# Altium footprint library Dual-In-Line Package.PcbLib: 149 footprints (part 6 of 10)
Each footprint in its own frame and in the unit in brackets; x right, y up, seen from the top. Pads: shape width x height; smd on the part's side, far side on the other; paste and mask are expansions set on the pad; w line width, h text height; cw(c..) or ccw(c..) is an arc to the next point about the centre after c.
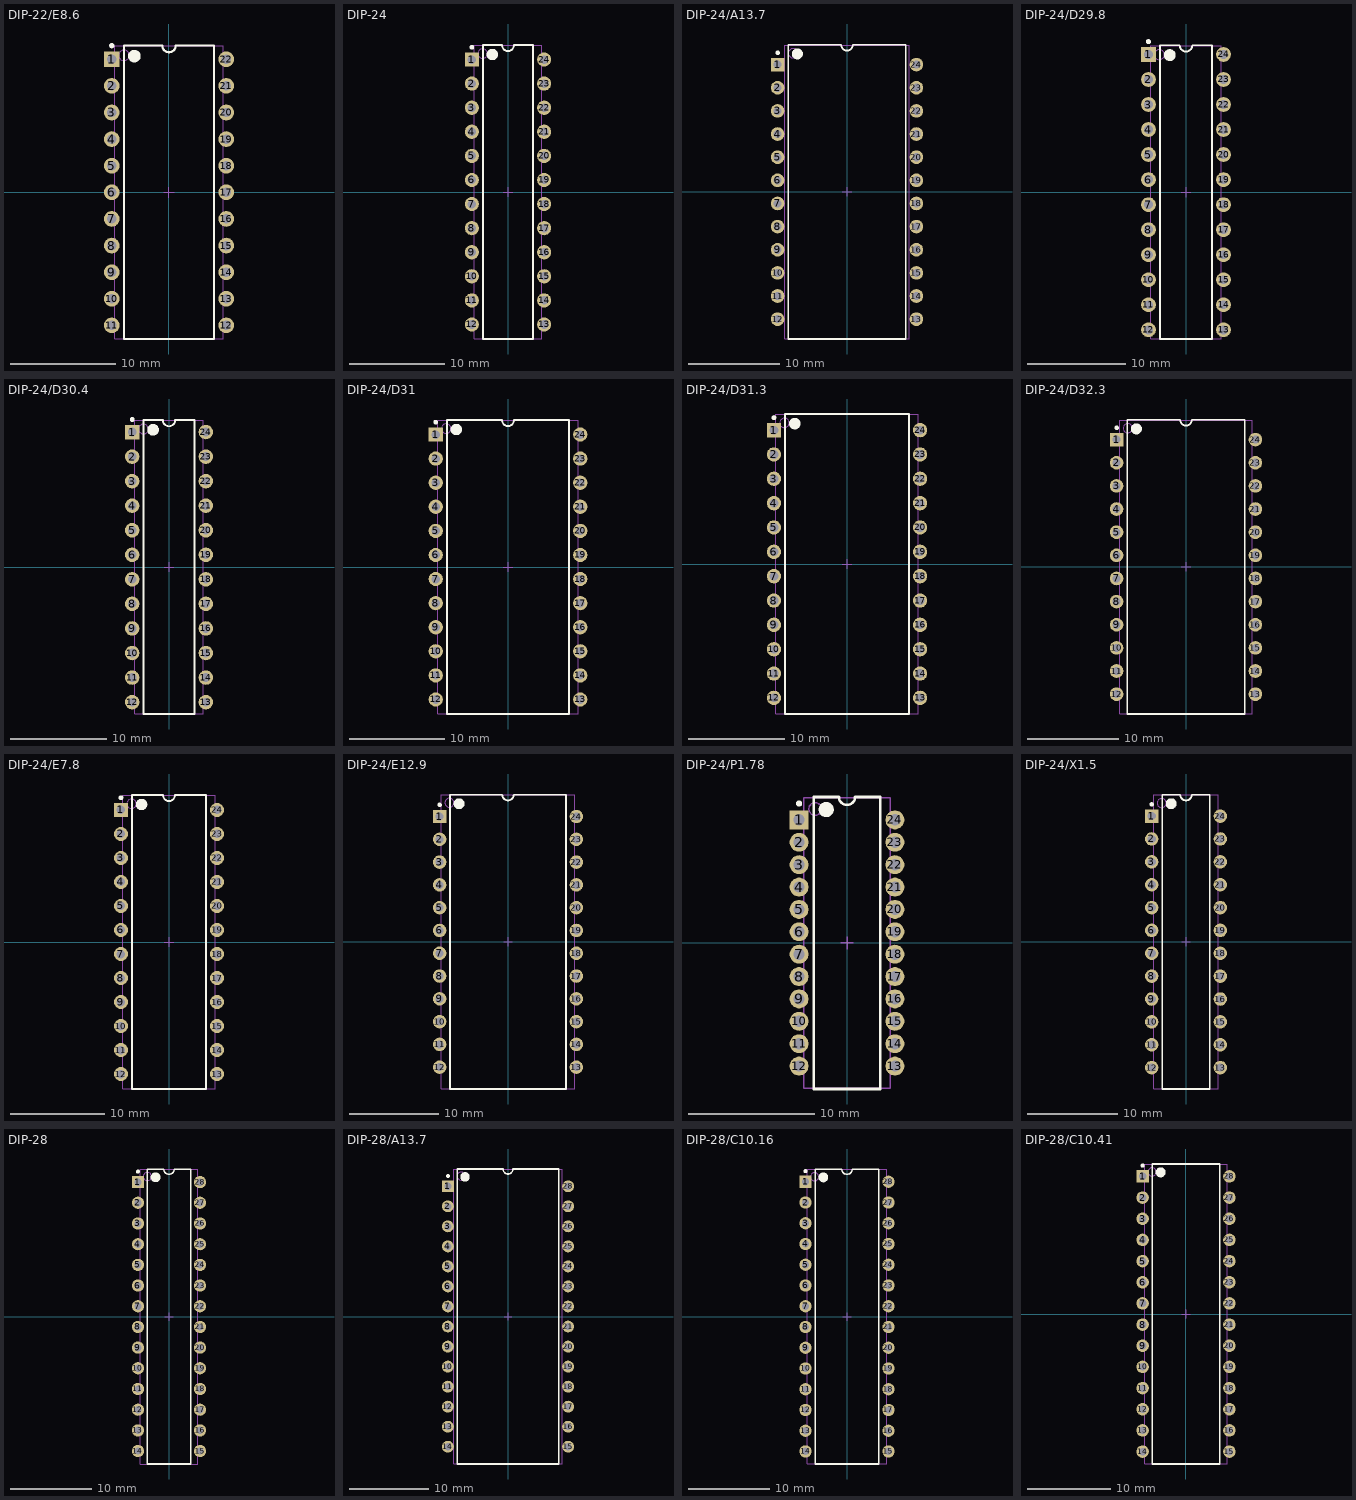
[diagram p5: the footprints below, top view; thin cyan lines are the x and y axes]

## DIP-22/E8.6 [mm] "DIP, Ceramic, 22-Pin, Row Spacing 10.92 mm, Pitch 2.54 mm"
height 3.56
pads (22):
  rect 1.5x1.5 hole 0.9: 1(-5.46,12.7)
  round 1.5 hole 0.9: 2(-5.46,10.16) 3(-5.46,7.62) 4(-5.46,5.08) 5(-5.46,2.54) 6(-5.46,0) 7(-5.46,-2.54) 8(-5.46,-5.08) 9(-5.46,-7.62) 10(-5.46,-10.16) 11(-5.46,-12.7) 12(5.46,-12.7) 13(5.46,-10.16) 14(5.46,-7.62) 15(5.46,-5.08) 16(5.46,-2.54) 17(5.46,0) 18(5.46,2.54) 19(5.46,5.08) 20(5.46,7.62) 21(5.46,10.16) 22(5.46,12.7)
Top Overlay:
  circle w0.25: c-5.46,14 r0.125
  circle w0.6: c-3.3,13 r0.3
  lines w0.2: -4.3,-14 -4.3,14 -0.635,14 ccw(c0,14) 0.635,14 4.3,14 4.3,-14 -4.3,-14
Mechanical 13:
  circle w0.1: c-4.3,13.075 r0.5
  lines w0.1: -5.2,-13.975 -5.2,13.975 5.2,13.975 5.2,-13.975 -5.2,-13.975
Mechanical 15:
  lines w0.1: -0.5,0 0.5,0 ; 0,-0.5 0,0.5

## DIP-24 [mm] "DIP, 24-Pin, Row Spacing 7.62 mm, Pitch 2.54 mm"
height 4.06
pads (24):
  rect 1.5x1.5 hole 0.9: 1(-3.81,13.97)
  round 1.5 hole 0.9: 2(-3.81,11.43) 3(-3.81,8.89) 4(-3.81,6.35) 5(-3.81,3.81) 6(-3.81,1.27) 7(-3.81,-1.27) 8(-3.81,-3.81) 9(-3.81,-6.35) 10(-3.81,-8.89) 11(-3.81,-11.43) 12(-3.81,-13.97) 13(3.81,-13.97) 14(3.81,-11.43) 15(3.81,-8.89) 16(3.81,-6.35) 17(3.81,-3.81) 18(3.81,-1.27) 19(3.81,1.27) 20(3.81,3.81) 21(3.81,6.35) 22(3.81,8.89) 23(3.81,11.43) 24(3.81,13.97)
Top Overlay:
  circle w0.6: c-1.65,14.5 r0.3
  circle w0.25: c-3.81,15.27 r0.125
  lines w0.2: -2.65,-15.5 2.65,-15.5 2.65,15.5 0.635,15.5 cw(c0,15.5) -0.635,15.5 -2.65,15.5 -2.65,-15.5
Mechanical 13:
  circle w0.1: c-2.675,14.6 r0.5
  lines w0.1: -3.575,-15.5 3.575,-15.5 3.575,15.5 -3.575,15.5 -3.575,-15.5
Mechanical 15:
  lines w0.1: -0.5,0 0.5,0 ; 0,-0.5 0,0.5
3D body: height 4.57, standoff -3.81, extent -3.91,-16.03 3.91,16.1

## DIP-24/A13.7 [mm] "DIP, 24-Leads, Row Spacing 15.24mm, Pitch 2.54mm, Body 31.9x13.3mm"
height 5.72
pads (24):
  rect 1.5x1.5 hole 0.9: 1(-7.62,13.97)
  round 1.5 hole 0.9: 2(-7.62,11.43) 3(-7.62,8.89) 4(-7.62,6.35) 5(-7.62,3.81) 6(-7.62,1.27) 7(-7.62,-1.27) 8(-7.62,-3.81) 9(-7.62,-6.35) 10(-7.62,-8.89) 11(-7.62,-11.43) 12(-7.62,-13.97) 13(7.62,-13.97) 14(7.62,-11.43) 15(7.62,-8.89) 16(7.62,-6.35) 17(7.62,-3.81) 18(7.62,-1.27) 19(7.62,1.27) 20(7.62,3.81) 21(7.62,6.35) 22(7.62,8.89) 23(7.62,11.43) 24(7.62,13.97)
Top Overlay:
  circle w0.25: c-7.62,15.27 r0.125
  circle w0.6: c-5.45,15.15 r0.3
  lines w0.2: -6.45,-16.15 -6.45,16.15 -0.635,16.15 ccw(c0,16.15) 0.635,16.15 6.45,16.15 6.45,-16.15 -6.45,-16.15
Mechanical 13:
  circle w0.1: c-5.95,15.225 r0.5
  lines w0.1: -6.85,-16.125 -6.85,16.125 6.85,16.125 6.85,-16.125 -6.85,-16.125
Mechanical 15:
  lines w0.1: -0.5,0 0.5,0 ; 0,-0.5 0,0.5

## DIP-24/D29.8 [mm] "DIP, 24-Pin, Row Spacing 7.62 mm, Pitch 2.54 mm"
height 4.57
pads (24):
  rect 1.5x1.5 hole 0.9: 1(-3.81,13.97)
  round 1.5 hole 0.9: 2(-3.81,11.43) 3(-3.81,8.89) 4(-3.81,6.35) 5(-3.81,3.81) 6(-3.81,1.27) 7(-3.81,-1.27) 8(-3.81,-3.81) 9(-3.81,-6.35) 10(-3.81,-8.89) 11(-3.81,-11.43) 12(-3.81,-13.97) 13(3.81,-13.97) 14(3.81,-11.43) 15(3.81,-8.89) 16(3.81,-6.35) 17(3.81,-3.81) 18(3.81,-1.27) 19(3.81,1.27) 20(3.81,3.81) 21(3.81,6.35) 22(3.81,8.89) 23(3.81,11.43) 24(3.81,13.97)
Top Overlay:
  circle w0.6: c-1.65,13.9 r0.3
  circle w0.25: c-3.81,15.27 r0.125
  lines w0.2: -2.65,-14.9 2.65,-14.9 2.65,14.9 0.635,14.9 cw(c0,14.9) -0.635,14.9 -2.65,14.9 -2.65,-14.9
Mechanical 13:
  circle w0.1: c-2.7,13.95 r0.5
  lines w0.1: -3.6,-14.85 3.6,-14.85 3.6,14.85 -3.6,14.85 -3.6,-14.85
Mechanical 15:
  lines w0.1: -0.5,0 0.5,0 ; 0,-0.5 0,0.5

## DIP-24/D30.4 [mm] "DIP, 24-Pin, Row Spacing 7.62 mm, Pitch 2.54 mm"
height 5.33
pads (24):
  rect 1.5x1.5 hole 0.9: 1(-3.81,13.97)
  round 1.5 hole 0.9: 2(-3.81,11.43) 3(-3.81,8.89) 4(-3.81,6.35) 5(-3.81,3.81) 6(-3.81,1.27) 7(-3.81,-1.27) 8(-3.81,-3.81) 9(-3.81,-6.35) 10(-3.81,-8.89) 11(-3.81,-11.43) 12(-3.81,-13.97) 13(3.81,-13.97) 14(3.81,-11.43) 15(3.81,-8.89) 16(3.81,-6.35) 17(3.81,-3.81) 18(3.81,-1.27) 19(3.81,1.27) 20(3.81,3.81) 21(3.81,6.35) 22(3.81,8.89) 23(3.81,11.43) 24(3.81,13.97)
Top Overlay:
  circle w0.25: c-3.81,15.27 r0.125
  circle w0.6: c-1.65,14.2 r0.3
  lines w0.2: -2.65,-15.2 -2.65,15.2 -0.635,15.2 ccw(c0,15.2) 0.635,15.2 2.65,15.2 2.65,-15.2 -2.65,-15.2
Mechanical 13:
  circle w0.1: c-2.65,14.275 r0.5
  lines w0.1: -3.55,-15.175 -3.55,15.175 3.55,15.175 3.55,-15.175 -3.55,-15.175
Mechanical 15:
  lines w0.1: -0.5,0 0.5,0 ; 0,-0.5 0,0.5

## DIP-24/D31 [mm] "DIP, 24-Pin, Row Spacing 15.24 mm, Pitch 2.54 mm"
height 4.32
pads (24):
  rect 1.5x1.5 hole 0.9: 1(-7.62,13.97)
  round 1.5 hole 0.9: 2(-7.62,11.43) 3(-7.62,8.89) 4(-7.62,6.35) 5(-7.62,3.81) 6(-7.62,1.27) 7(-7.62,-1.27) 8(-7.62,-3.81) 9(-7.62,-6.35) 10(-7.62,-8.89) 11(-7.62,-11.43) 12(-7.62,-13.97) 13(7.62,-13.97) 14(7.62,-11.43) 15(7.62,-8.89) 16(7.62,-6.35) 17(7.62,-3.81) 18(7.62,-1.27) 19(7.62,1.27) 20(7.62,3.81) 21(7.62,6.35) 22(7.62,8.89) 23(7.62,11.43) 24(7.62,13.97)
Top Overlay:
  circle w0.25: c-7.62,15.27 r0.125
  circle w0.6: c-5.45,14.5 r0.3
  lines w0.2: -6.45,-15.5 -6.45,15.5 -0.635,15.5 ccw(c0,15.5) 0.635,15.5 6.45,15.5 6.45,-15.5 -6.45,-15.5
Mechanical 13:
  circle w0.1: c-6.525,14.6 r0.5
  lines w0.1: -7.425,-15.5 -7.425,15.5 7.425,15.5 7.425,-15.5 -7.425,-15.5
Mechanical 15:
  lines w0.1: -0.5,0 0.5,0 ; 0,-0.5 0,0.5
3D body: height 5.09, standoff -3.81, extent -7.74,-16.2 7.7,16.06

## DIP-24/D31.3 [mm] "DIP, 24-Leads, Row Spacing 15.24mm, Pitch 2.54mm, Body 31.2x15.1mm"
height 5.34
pads (24):
  rect 1.5x1.5 hole 0.9: 1(-7.62,13.97)
  round 1.5 hole 0.9: 2(-7.62,11.43) 3(-7.62,8.89) 4(-7.62,6.35) 5(-7.62,3.81) 6(-7.62,1.27) 7(-7.62,-1.27) 8(-7.62,-3.81) 9(-7.62,-6.35) 10(-7.62,-8.89) 11(-7.62,-11.43) 12(-7.62,-13.97) 13(7.62,-13.97) 14(7.62,-11.43) 15(7.62,-8.89) 16(7.62,-6.35) 17(7.62,-3.81) 18(7.62,-1.27) 19(7.62,1.27) 20(7.62,3.81) 21(7.62,6.35) 22(7.62,8.89) 23(7.62,11.43) 24(7.62,13.97)
Top Overlay:
  circle w0.6: c-5.45,14.65 r0.3
  circle w0.25: c-7.62,15.27 r0.125
  lines w0.2: -6.45,-15.65 6.45,-15.65 6.45,15.65 -6.45,15.65 -6.45,-15.65
Mechanical 13:
  circle w0.1: c-6.525,14.725 r0.5
  lines w0.1: -7.425,-15.625 7.425,-15.625 7.425,15.625 -7.425,15.625 -7.425,-15.625
Mechanical 15:
  lines w0.1: -0.5,0 0.5,0 ; 0,-0.5 0,0.5

## DIP-24/D32.3 [mm] "DIP, 24-Pin, Row Spacing 15.24 mm, Pitch 2.54 mm"
height 4.98
pads (24):
  rect 1.5x1.5 hole 0.9: 1(-7.62,13.97)
  round 1.5 hole 0.9: 2(-7.62,11.43) 3(-7.62,8.89) 4(-7.62,6.35) 5(-7.62,3.81) 6(-7.62,1.27) 7(-7.62,-1.27) 8(-7.62,-3.81) 9(-7.62,-6.35) 10(-7.62,-8.89) 11(-7.62,-11.43) 12(-7.62,-13.97) 13(7.62,-13.97) 14(7.62,-11.43) 15(7.62,-8.89) 16(7.62,-6.35) 17(7.62,-3.81) 18(7.62,-1.27) 19(7.62,1.27) 20(7.62,3.81) 21(7.62,6.35) 22(7.62,8.89) 23(7.62,11.43) 24(7.62,13.97)
Top Overlay:
  circle w0.25: c-7.62,15.27 r0.125
  circle w0.6: c-5.45,15.15 r0.3
  lines w0.2: -6.45,-16.15 -6.45,16.15 -0.635,16.15 ccw(c0,16.15) 0.635,16.15 6.45,16.15 6.45,-16.15 -6.45,-16.15
Mechanical 13:
  circle w0.1: c-6.4,15.225 r0.5
  lines w0.1: -7.3,-16.125 -7.3,16.125 7.3,16.125 7.3,-16.125 -7.3,-16.125
Mechanical 15:
  lines w0.1: -0.5,0 0.5,0 ; 0,-0.5 0,0.5

## DIP-24/E7.8 [mm] "DIP, 24-Pin, Row Spacing 10.16 mm, Pitch 2.54 mm"
height 5.08
pads (24):
  rect 1.5x1.5 hole 0.9: 1(-5.08,13.97)
  round 1.5 hole 0.9: 2(-5.08,11.43) 3(-5.08,8.89) 4(-5.08,6.35) 5(-5.08,3.81) 6(-5.08,1.27) 7(-5.08,-1.27) 8(-5.08,-3.81) 9(-5.08,-6.35) 10(-5.08,-8.89) 11(-5.08,-11.43) 12(-5.08,-13.97) 13(5.08,-13.97) 14(5.08,-11.43) 15(5.08,-8.89) 16(5.08,-6.35) 17(5.08,-3.81) 18(5.08,-1.27) 19(5.08,1.27) 20(5.08,3.81) 21(5.08,6.35) 22(5.08,8.89) 23(5.08,11.43) 24(5.08,13.97)
Top Overlay:
  circle w0.25: c-5.08,15.27 r0.125
  circle w0.6: c-2.9,14.55 r0.3
  lines w0.2: -3.9,-15.55 -3.9,15.55 -0.635,15.55 ccw(c0,15.55) 0.635,15.55 3.9,15.55 3.9,-15.55 -3.9,-15.55
Mechanical 13:
  circle w0.1: c-3.975,14.625 r0.5
  lines w0.1: -4.875,-15.525 -4.875,15.525 4.875,15.525 4.875,-15.525 -4.875,-15.525
Mechanical 15:
  lines w0.1: -0.5,0 0.5,0 ; 0,-0.5 0,0.5

## DIP-24/E12.9 [mm] "DIP, 24-Pin, Row Spacing 15.24 mm, Pitch 2.54 mm"
height 5.08
pads (24):
  rect 1.5x1.5 hole 0.9: 1(-7.62,13.97)
  round 1.5 hole 0.9: 2(-7.62,11.43) 3(-7.62,8.89) 4(-7.62,6.35) 5(-7.62,3.81) 6(-7.62,1.27) 7(-7.62,-1.27) 8(-7.62,-3.81) 9(-7.62,-6.35) 10(-7.62,-8.89) 11(-7.62,-11.43) 12(-7.62,-13.97) 13(7.62,-13.97) 14(7.62,-11.43) 15(7.62,-8.89) 16(7.62,-6.35) 17(7.62,-3.81) 18(7.62,-1.27) 19(7.62,1.27) 20(7.62,3.81) 21(7.62,6.35) 22(7.62,8.89) 23(7.62,11.43) 24(7.62,13.97)
Top Overlay:
  circle w0.25: c-7.62,15.27 r0.125
  circle w0.6: c-5.45,15.4 r0.3
  lines w0.2: -6.45,-16.4 -6.45,16.4 -0.635,16.4 ccw(c0,16.4) 0.635,16.4 6.45,16.4 6.45,-16.4 -6.45,-16.4
Mechanical 13:
  circle w0.1: c-6.525,15.5 r0.5
  lines w0.1: -7.425,-16.4 -7.425,16.4 7.425,16.4 7.425,-16.4 -7.425,-16.4
Mechanical 15:
  lines w0.1: -0.5,0 0.5,0 ; 0,-0.5 0,0.5

## DIP-24/P1.78 [mm] "DIP, Plastic Shrink, 24-Pin, Row Spacing 7.62 mm, Pitch 1.778 mm"
height 5.08
pads (24):
  rect 1.5x1.5 hole 0.9: 1(-3.81,9.779)
  round 1.5 hole 0.9: 2(-3.81,8.001) 3(-3.81,6.223) 4(-3.81,4.445) 5(-3.81,2.667) 6(-3.81,0.889) 7(-3.81,-0.889) 8(-3.81,-2.667) 9(-3.81,-4.445) 10(-3.81,-6.223) 11(-3.81,-8.001) 12(-3.81,-9.779) 13(3.81,-9.779) 14(3.81,-8.001) 15(3.81,-6.223) 16(3.81,-4.445) 17(3.81,-2.667) 18(3.81,-0.889) 19(3.81,0.889) 20(3.81,2.667) 21(3.81,4.445) 22(3.81,6.223) 23(3.81,8.001) 24(3.81,9.779)
Top Overlay:
  circle w0.25: c-3.81,11.079 r0.125
  circle w0.6: c-1.65,10.6 r0.3
  lines w0.2: -2.65,-11.6 -2.65,11.6 -0.635,11.6 ccw(c0,11.6) 0.635,11.6 2.65,11.6 2.65,-11.6 -2.65,-11.6
Mechanical 13:
  circle w0.1: c-2.525,10.65 r0.5
  lines w0.1: -3.425,-11.55 -3.425,11.55 3.425,11.55 3.425,-11.55 -3.425,-11.55
Mechanical 15:
  lines w0.1: -0.5,0 0.5,0 ; 0,-0.5 0,0.5

## DIP-24/X1.5 [mm] "DIP, 24-Pin, Row Spacing 7.62 mm, Pitch 2.54 mm"
height 5.33
pads (24):
  rect 1.5x1.5 hole 0.9: 1(-3.81,13.97)
  round 1.5 hole 0.9: 2(-3.81,11.43) 3(-3.81,8.89) 4(-3.81,6.35) 5(-3.81,3.81) 6(-3.81,1.27) 7(-3.81,-1.27) 8(-3.81,-3.81) 9(-3.81,-6.35) 10(-3.81,-8.89) 11(-3.81,-11.43) 12(-3.81,-13.97) 13(3.81,-13.97) 14(3.81,-11.43) 15(3.81,-8.89) 16(3.81,-6.35) 17(3.81,-3.81) 18(3.81,-1.27) 19(3.81,1.27) 20(3.81,3.81) 21(3.81,6.35) 22(3.81,8.89) 23(3.81,11.43) 24(3.81,13.97)
Top Overlay:
  circle w0.6: c-1.65,15.35 r0.3
  circle w0.25: c-3.81,15.27 r0.125
  lines w0.2: -2.65,-16.35 2.65,-16.35 2.65,16.35 0.635,16.35 cw(c0,16.35) -0.635,16.35 -2.65,16.35 -2.65,-16.35
Mechanical 13:
  circle w0.1: c-2.7,15.425 r0.5
  lines w0.1: -3.6,-16.325 3.6,-16.325 3.6,16.325 -3.6,16.325 -3.6,-16.325
Mechanical 15:
  lines w0.1: -0.5,0 0.5,0 ; 0,-0.5 0,0.5

## DIP-28 [mm] "DIP, 28-Pin, Row Spacing 7.62 mm, Pitch 2.54 mm"
height 5.33
pads (28):
  rect 1.5x1.5 hole 0.9: 1(-3.81,16.51)
  round 1.5 hole 0.9: 2(-3.81,13.97) 3(-3.81,11.43) 4(-3.81,8.89) 5(-3.81,6.35) 6(-3.81,3.81) 7(-3.81,1.27) 8(-3.81,-1.27) 9(-3.81,-3.81) 10(-3.81,-6.35) 11(-3.81,-8.89) 12(-3.81,-11.43) 13(-3.81,-13.97) 14(-3.81,-16.51) 15(3.81,-16.51) 16(3.81,-13.97) 17(3.81,-11.43) 18(3.81,-8.89) 19(3.81,-6.35) 20(3.81,-3.81) 21(3.81,-1.27) 22(3.81,1.27) 23(3.81,3.81) 24(3.81,6.35) 25(3.81,8.89) 26(3.81,11.43) 27(3.81,13.97) 28(3.81,16.51)
Top Overlay:
  circle w0.6: c-1.65,17.1 r0.3
  circle w0.25: c-3.81,17.81 r0.125
  lines w0.2: -2.65,-18.1 2.65,-18.1 2.65,18.1 0.635,18.1 cw(c0,18.1) -0.635,18.1 -2.65,18.1 -2.65,-18.1
Mechanical 13:
  circle w0.1: c-2.65,17.2 r0.5
  lines w0.1: -3.55,-18.1 3.55,-18.1 3.55,18.1 -3.55,18.1 -3.55,-18.1
Mechanical 15:
  lines w0.1: -0.5,0 0.5,0 ; 0,-0.5 0,0.5
3D body: height 4.57, standoff -3.81, extent -3.91,-17.55 3.91,17.5

## DIP-28/A13.7 [mm] "DIP, 28-Leads, Row Spacing 15.24mm, Pitch 2.54mm, Body 37.0x13.3mm"
height 5.72
pads (28):
  rect 1.5x1.5 hole 0.9: 1(-7.62,16.51)
  round 1.5 hole 0.9: 2(-7.62,13.97) 3(-7.62,11.43) 4(-7.62,8.89) 5(-7.62,6.35) 6(-7.62,3.81) 7(-7.62,1.27) 8(-7.62,-1.27) 9(-7.62,-3.81) 10(-7.62,-6.35) 11(-7.62,-8.89) 12(-7.62,-11.43) 13(-7.62,-13.97) 14(-7.62,-16.51) 15(7.62,-16.51) 16(7.62,-13.97) 17(7.62,-11.43) 18(7.62,-8.89) 19(7.62,-6.35) 20(7.62,-3.81) 21(7.62,-1.27) 22(7.62,1.27) 23(7.62,3.81) 24(7.62,6.35) 25(7.62,8.89) 26(7.62,11.43) 27(7.62,13.97) 28(7.62,16.51)
Top Overlay:
  circle w0.25: c-7.62,17.81 r0.125
  circle w0.6: c-5.45,17.7 r0.3
  lines w0.2: -6.45,-18.7 -6.45,18.7 -0.635,18.7 ccw(c0,18.7) 0.635,18.7 6.45,18.7 6.45,-18.7 -6.45,-18.7
Mechanical 13:
  circle w0.1: c-5.95,17.798 r0.5
  lines w0.1: -6.85,-18.675 -6.85,18.675 6.85,18.675 6.85,-18.675 -6.85,-18.675
Mechanical 15:
  lines w0.1: -0.5,0 0.5,0 ; 0,-0.5 0,0.5
3D body: height 5.09, standoff -3.81, extent -7.72,-18.67 7.72,18.67

## DIP-28/C10.16 [mm] "DIP, Plastic, 28-Pin, Row Spacing 10.16 mm, Pitch 2.54 mm"
height 5.34
pads (28):
  rect 1.5x1.5 hole 0.9: 1(-5.08,16.51)
  round 1.5 hole 0.9: 2(-5.08,13.97) 3(-5.08,11.43) 4(-5.08,8.89) 5(-5.08,6.35) 6(-5.08,3.81) 7(-5.08,1.27) 8(-5.08,-1.27) 9(-5.08,-3.81) 10(-5.08,-6.35) 11(-5.08,-8.89) 12(-5.08,-11.43) 13(-5.08,-13.97) 14(-5.08,-16.51) 15(5.08,-16.51) 16(5.08,-13.97) 17(5.08,-11.43) 18(5.08,-8.89) 19(5.08,-6.35) 20(5.08,-3.81) 21(5.08,-1.27) 22(5.08,1.27) 23(5.08,3.81) 24(5.08,6.35) 25(5.08,8.89) 26(5.08,11.43) 27(5.08,13.97) 28(5.08,16.51)
Top Overlay:
  circle w0.6: c-2.9,17.05 r0.3
  circle w0.25: c-5.08,17.81 r0.125
  lines w0.2: -3.9,-18.05 3.9,-18.05 3.9,18.05 0.635,18.05 cw(c0,18.05) -0.635,18.05 -3.9,18.05 -3.9,-18.05
Mechanical 13:
  circle w0.1: c-3.975,17.125 r0.5
  lines w0.1: -4.875,-18.025 4.875,-18.025 4.875,18.025 -4.875,18.025 -4.875,-18.025
Mechanical 15:
  lines w0.1: -0.5,0 0.5,0 ; 0,-0.5 0,0.5

## DIP-28/C10.41 [mm] "DIP, 28-Leads, Row Spacing 10.41mm, Pitch 2.54mm, Body 35.6x9.9mm"
height 4.2
pads (28):
  rect 1.5x1.5 hole 0.9: 1(-5.205,16.51)
  round 1.5 hole 0.9: 2(-5.205,13.97) 3(-5.205,11.43) 4(-5.205,8.89) 5(-5.205,6.35) 6(-5.205,3.81) 7(-5.205,1.27) 8(-5.205,-1.27) 9(-5.205,-3.81) 10(-5.205,-6.35) 11(-5.205,-8.89) 12(-5.205,-11.43) 13(-5.205,-13.97) 14(-5.205,-16.51) 15(5.205,-16.51) 16(5.205,-13.97) 17(5.205,-11.43) 18(5.205,-8.89) 19(5.205,-6.35) 20(5.205,-3.81) 21(5.205,-1.27) 22(5.205,1.27) 23(5.205,3.81) 24(5.205,6.35) 25(5.205,8.89) 26(5.205,11.43) 27(5.205,13.97) 28(5.205,16.51)
Top Overlay:
  circle w0.6: c-3.05,17 r0.3
  circle w0.25: c-5.205,17.81 r0.125
  lines w0.2: -4.05,-18 4.05,-18 4.05,18 -4.05,18 -4.05,-18
Mechanical 13:
  circle w0.1: c-4.075,17.05 r0.5
  lines w0.1: -4.975,-17.95 4.975,-17.95 4.975,17.95 -4.975,17.95 -4.975,-17.95
Mechanical 15:
  lines w0.1: -0.5,0 0.5,0 ; 0,-0.5 0,0.5